# Altium schematic symbol library TPS3828.SchLib: 1 symbol
Pins are listed as number, name and electrical type; pins without a type are passive.

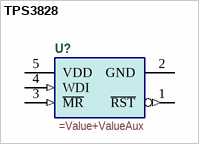
[diagram p0: symbol TPS3828]

## TPS3828
designator U?
=Description
pins: 1 ~{RST} (out), 2 GND (power), 3 ~{MR} (in), 4 WDI (in), 5 VDD (power)